# Altium schematic symbol library CRCW1206750RFKEA.SchLib: 1 symbol
Pins are listed as number, name and electrical type; pins without a type are passive.

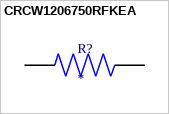
[diagram p0: symbol CRCW1206750RFKEA]

## CRCW1206750RFKEA
designator R?
RES SMD 750 OHM 1% 1/4W 1206; MP: CRCW1206750RFKEA; Package: None; Price: None; Value: *; Availability: Unavailable
footprint RESC3116X60N
pins: 1, 2